# EAGLE library part AM-CSS811 (library FaBo-Mems)
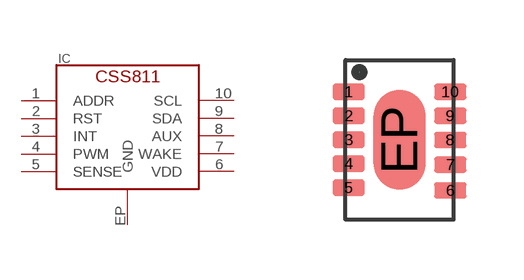
[diagram p33: symbol with the pads of AMS-CSS811; footprint AMS-CSS811]

Designator prefix IC

## AM-CSS811  [AMS-CSS811]
1  ADDR
2  RST
3  INT
4  PWM
5  SENSE
6  VDD
7  WAKE
8  AUX
9  SDA
10  SCL
EP  GND

## Footprint AMS-CSS811 (pad centres in mm)
smd 0.8 x 0.4: 1 -1.27,1.2; 2 -1.27,0.6; 3 -1.27,0; 4 -1.27,-0.6; 5 -1.27,-1.2; 6 1.27,-1.27; 7 1.27,-0.625; 8 1.27,-0.006; 9 1.27,0.6; 10 1.27,1.2
smd 1.3 x 2.5: EP 0,0